# EAGLE library part MAX78000EXG+ (library PCB_Components)
ARM Microcontrollers - MCU ARM M4F w/ 432KB Weight CNN Accelerator, CTBGA Source: Datasheet <https://pdfserv.maximintegrated.com/en/ds/MAX78000.pdf>
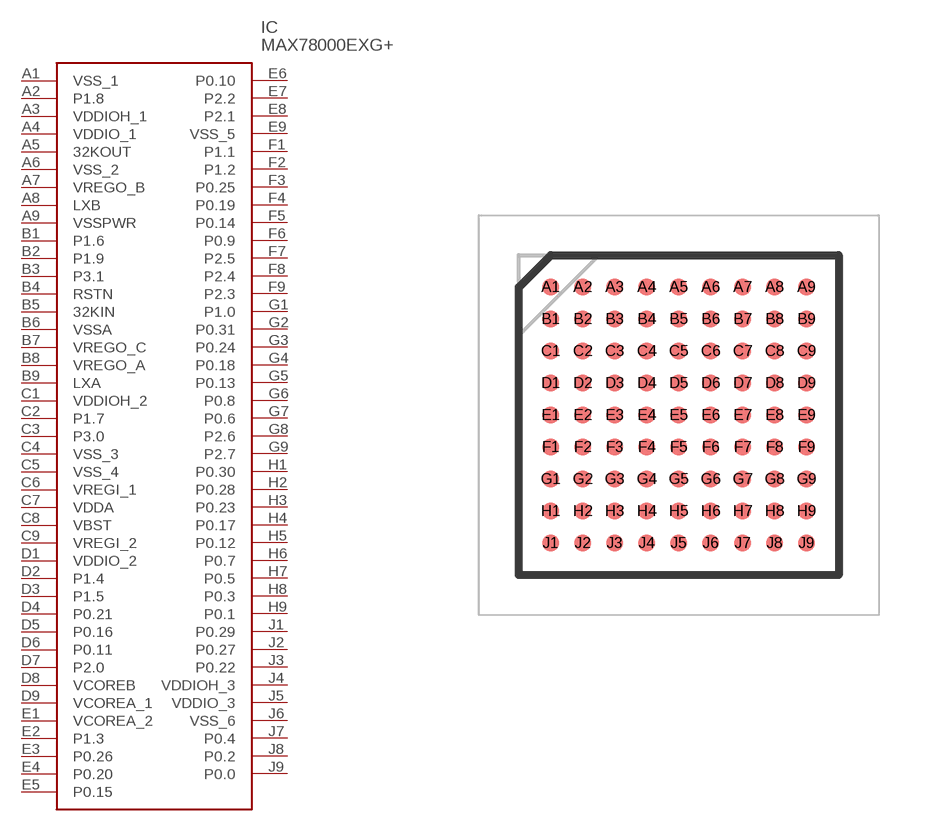
[diagram p10: symbol with the pads of BGA81C80P9X9_800X800X130; footprint BGA81C80P9X9_800X800X130]

Designator prefix IC

## MAX78000EXG+ (DESCRIPTION: ARM Microcontrollers - MCU ARM M4F w/ 432KB Weight CNN Accelerator, CTBGA; HEIGHT: 1.3mm; MANUFACTURER_NAME: Maxim Integrated; MANUFACTURER_PART_NUMBER: MAX78000EXG+; MOUSER_PART_NUMBER: 700-MAX78000EXG+; MOUSER_PRICE-STOCK: https://www.mouser.co.uk/ProductDetail/Maxim-Integrated/MAX78000EXG%2b?qs=yqaQSyyJnNigS5t%2FKz0nhQ%3D%3D)  [BGA81C80P9X9_800X800X130]
A1  VSS_1
A2  P1.8
A3  VDDIOH_1
A4  VDDIO_1
A5  32KOUT
A6  VSS_2
A7  VREGO_B
A8  LXB
A9  VSSPWR
B1  P1.6
B2  P1.9
B3  P3.1
B4  RSTN
B5  32KIN
B6  VSSA
B7  VREGO_C
B8  VREGO_A
B9  LXA
C1  VDDIOH_2
C2  P1.7
C3  P3.0
C4  VSS_3
C5  VSS_4
C6  VREGI_1
C7  VDDA
C8  VBST
C9  VREGI_2
D1  VDDIO_2
D2  P1.4
D3  P1.5
D4  P0.21
D5  P0.16
D6  P0.11
D7  P2.0
D8  VCOREB
D9  VCOREA_1
E1  VCOREA_2
E2  P1.3
E3  P0.26
E4  P0.20
E5  P0.15
E6  P0.10
E7  P2.2
E8  P2.1
E9  VSS_5
F1  P1.1
F2  P1.2
F3  P0.25
F4  P0.19
F5  P0.14
F6  P0.9
F7  P2.5
F8  P2.4
F9  P2.3
G1  P1.0
G2  P0.31
G3  P0.24
G4  P0.18
G5  P0.13
G6  P0.8
G7  P0.6
G8  P2.6
G9  P2.7
H1  P0.30
H2  P0.28
H3  P0.23
H4  P0.17
H5  P0.12
H6  P0.7
H7  P0.5
H8  P0.3
H9  P0.1
J1  P0.29
J2  P0.27
J3  P0.22
J4  VDDIOH_3
J5  VDDIO_3
J6  VSS_6
J7  P0.4
J8  P0.2
J9  P0.0

## Footprint BGA81C80P9X9_800X800X130 (pad centres in mm)
X8188+2C
smd 0.41 x 0.41: A1 -3.2,3.2; A2 -2.4,3.2; A3 -1.6,3.2; A4 -0.8,3.2; A5 0,3.2; A6 0.8,3.2; A7 1.6,3.2; A8 2.4,3.2; A9 3.2,3.2; B1 -3.2,2.4; B2 -2.4,2.4; B3 -1.6,2.4; B4 -0.8,2.4; B5 0,2.4; B6 0.8,2.4; B7 1.6,2.4; B8 2.4,2.4; B9 3.2,2.4; C1 -3.2,1.6; C2 -2.4,1.6; C3 -1.6,1.6; C4 -0.8,1.6; C5 0,1.6; C6 0.8,1.6; C7 1.6,1.6; C8 2.4,1.6; C9 3.2,1.6; D1 -3.2,0.8; D2 -2.4,0.8; D3 -1.6,0.8; D4 -0.8,0.8; D5 0,0.8; D6 0.8,0.8; D7 1.6,0.8; D8 2.4,0.8; D9 3.2,0.8; E1 -3.2,0; E2 -2.4,0; E3 -1.6,0; E4 -0.8,0; E5 0,0; E6 0.8,0; E7 1.6,0; E8 2.4,0; E9 3.2,0; F1 -3.2,-0.8; F2 -2.4,-0.8; F3 -1.6,-0.8; F4 -0.8,-0.8; F5 0,-0.8; F6 0.8,-0.8; F7 1.6,-0.8; F8 2.4,-0.8; F9 3.2,-0.8; G1 -3.2,-1.6; G2 -2.4,-1.6; G3 -1.6,-1.6; G4 -0.8,-1.6; G5 0,-1.6; G6 0.8,-1.6; G7 1.6,-1.6; G8 2.4,-1.6; G9 3.2,-1.6; H1 -3.2,-2.4; H2 -2.4,-2.4; H3 -1.6,-2.4; H4 -0.8,-2.4; H5 0,-2.4; H6 0.8,-2.4; H7 1.6,-2.4; H8 2.4,-2.4; H9 3.2,-2.4; J1 -3.2,-3.2; J2 -2.4,-3.2; J3 -1.6,-3.2; J4 -0.8,-3.2; J5 0,-3.2; J6 0.8,-3.2; J7 1.6,-3.2; J8 2.4,-3.2; J9 3.2,-3.2